# EAGLE library part SWITCH,BUTTON,RECT,5X5MM (library StdBxLibrary_BETA_)
BETA! SB0030 - Switch, Push Button, DPDT, 5x5mm Rect Cap, Available in Momentary and Push-on / Push-Off with various color caps
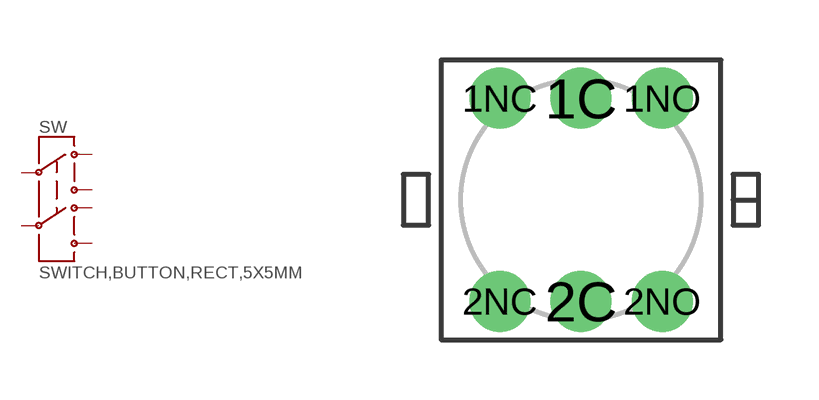
[diagram p8: symbol with the pads of 7X7_BUTTON_RECT; footprint 7X7_BUTTON_RECT]

Designator prefix SW

## SWITCH,BUTTON,RECT,5X5MM  [7X7_BUTTON_RECT]
1C  1C
1NC  1NC
1NO  1NO
2C  2C
2NC  2NC
2NO  2NO

## Footprint 7X7_BUTTON_RECT (pad centres in mm)
drill 0.8 pad 1.524: 1C 0,2.54; 1NC -2.032,2.54; 1NO 2.032,2.54; 2C 0,-2.54; 2NC -2.032,-2.54; 2NO 2.032,-2.54